# Altium schematic symbol library SCH - ADC - TI PCM1864-Q1.Schlib: 1 symbol
Pins are listed as number, name and electrical type; pins without a type are passive.

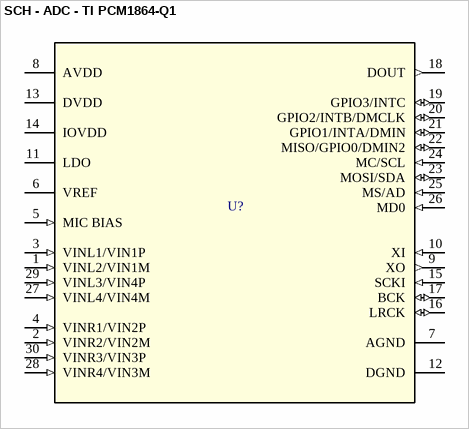
[diagram p0: symbol SCH - ADC - TI PCM1864-Q1]

## SCH - ADC - TI PCM1864-Q1
designator U?
footprint DBT0030A_N
pins: 1 VINL2/VIN1M (in), 2 VINR2/VIN2M (in), 3 VINL1/VIN1P (in), 4 VINR1/VIN2P (in), 5 MIC BIAS (in), 6 VREF (power), 7 AGND (power), 8 AVDD (power), 9 XO (out), 10 XI (in), 11 LDO (power), 12 DGND (power), 13 DVDD (power), 14 IOVDD (power), 15 SCKI (in), 16 LRCK (io), 17 BCK (io), 18 DOUT (out), 19 GPIO3/INTC (io), 20 GPIO2/INTB/DMCLK (io), 21 GPIO1/INTA/DMIN (io), 22 MISO/GPIO0/DMIN2 (io), 23 MOSI/SDA (io), 24 MC/SCL (in), 25 MS/AD (in), 26 MD0 (in), 27 VINL4/VIN4M (in), 28 VINR4/VIN3M (in), 29 VINL3/VIN4P (in), 30 VINR3/VIN3P (in)